# Altium integrated library SRD-24VDC-SL-C.IntLib: 1 symbol
Pins are listed as number, name and electrical type; pins without a type are passive.

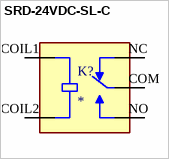
[diagram p0: symbol SRD-24VDC-SL-C]

## SRD-24VDC-SL-C
designator K?
MP: SRD-24VDC-SL-C; Value: *; Package: None; Price: None; Availability: Unavailable
footprint RELAY_SRD-24VDC-SL-C
pins: COIL1, COIL2, COM, NC, NO